# Altium footprint library Embedded.PcbLib: 8 footprints (part 2 of 3)
Each footprint in its own frame and in the unit in brackets; x right, y up, seen from the top. Pads: shape width x height; smd on the part's side, far side on the other; paste and mask are expansions set on the pad; w line width, h text height; cw(c..) or ccw(c..) is an arc to the next point about the centre after c.
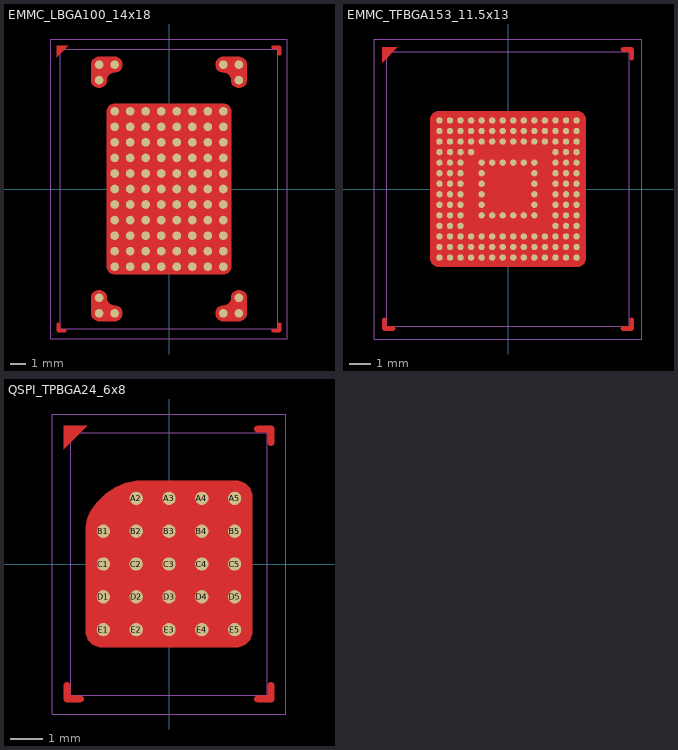
[diagram p1: the footprints below, top view; thin cyan lines are the x and y axes]

## EMMC_LBGA100_14x18 [mil]
pads (100):
  round 22 smd mask+2: A1(-177.17,314.96) A2(-137.8,314.96) A9(137.8,314.96) A10(177.17,314.96) B1(-177.17,275.59) B10(177.17,275.59) D2(-137.8,196.85) D3(-98.43,196.85) D4(-59.06,196.85) D5(-19.68,196.85) D6(19.69,196.85) D7(59.06,196.85) D8(98.43,196.85) D9(137.8,196.85) E2(-137.8,157.48) E3(-98.43,157.48) E4(-59.06,157.48) E5(-19.68,157.48) E6(19.69,157.48) E7(59.06,157.48) E8(98.43,157.48) E9(137.8,157.48) F2(-137.8,118.11) F3(-98.43,118.11) F4(-59.06,118.11) F5(-19.68,118.11) F6(19.69,118.11) F7(59.06,118.11) F8(98.43,118.11) F9(137.8,118.11) G2(-137.8,78.74) G3(-98.43,78.74) G4(-59.06,78.74) G5(-19.68,78.74) G6(19.69,78.74) G7(59.06,78.74) G8(98.43,78.74) G9(137.8,78.74) H2(-137.8,39.37) H3(-98.43,39.37) H4(-59.06,39.37) H5(-19.68,39.37) H6(19.69,39.37) H7(59.06,39.37) H8(98.43,39.37) H9(137.8,39.37) J2(-137.8,0) J3(-98.43,0) J4(-59.06,0) J5(-19.68,0) J6(19.69,0) J7(59.06,0) J8(98.43,0) J9(137.8,0) K2(-137.8,-39.37) K3(-98.43,-39.37) K4(-59.06,-39.37) K5(-19.68,-39.37) K6(19.69,-39.37) K7(59.06,-39.37) K8(98.43,-39.37) K9(137.8,-39.37) L2(-137.8,-78.74) L3(-98.43,-78.74) L4(-59.06,-78.74) L5(-19.68,-78.74) L6(19.69,-78.74) L7(59.06,-78.74) L8(98.43,-78.74) L9(137.8,-78.74) M2(-137.8,-118.11) M3(-98.43,-118.11) M4(-59.06,-118.11) M5(-19.68,-118.11) M6(19.69,-118.11) M7(59.06,-118.11) M8(98.43,-118.11) M9(137.8,-118.11) N2(-137.8,-157.48) N3(-98.43,-157.48) N4(-59.06,-157.48) N5(-19.68,-157.48) N6(19.69,-157.48) N7(59.06,-157.48) N8(98.43,-157.48) N9(137.8,-157.48) P2(-137.8,-196.85) P3(-98.43,-196.85) P4(-59.06,-196.85) P5(-19.68,-196.85) P6(19.69,-196.85) P7(59.06,-196.85) P8(98.43,-196.85) P9(137.8,-196.85) T1(-177.17,-275.59) T10(177.17,-275.59) U1(-177.17,-314.96) U2(-137.8,-314.96) U9(137.8,-314.96) U10(177.17,-314.96)
Top Layer:
  pour cut-out: -196.85,314.96 -196.85,318.88 -193.85,326.11 -188.32,331.65 -181.08,334.65 -177.17,334.65 -137.8,334.65 -133.88,334.65 -126.64,331.65 -121.11,326.11 -118.11,318.88 -118.11,314.96 -118.11,311.05 -121.11,303.81 -126.64,298.27 -133.88,295.28 -137.8,295.28 -141.64,294.9 -148.73,291.96 -154.16,286.53 -157.1,279.43 -157.48,275.59 -157.48,271.68 -160.48,264.44 -166.01,258.9 -173.25,255.91 -177.17,255.91 -181.08,255.91 -188.32,258.9 -193.85,264.44 -196.85,271.68 -196.85,275.59
  pour cut-out: 177.17,334.65 181.08,334.65 188.32,331.65 193.85,326.11 196.85,318.88 196.85,314.96 196.85,275.59 196.85,271.68 193.85,264.44 188.32,258.9 181.08,255.91 177.17,255.91 173.25,255.91 166.01,258.9 160.48,264.44 157.48,271.68 157.48,275.59 157.1,279.43 154.16,286.53 148.73,291.96 141.64,294.9 137.8,295.28 133.88,295.28 126.64,298.27 121.11,303.81 118.11,311.05 118.11,314.96 118.11,318.88 121.11,326.11 126.64,331.65 133.88,334.65 137.8,334.65
  pour cut-out: 196.85,-314.96 196.85,-318.88 193.85,-326.11 188.32,-331.65 181.08,-334.65 177.17,-334.65 137.8,-334.65 133.88,-334.65 126.64,-331.65 121.11,-326.11 118.11,-318.88 118.11,-314.96 118.11,-311.05 121.11,-303.81 126.64,-298.27 133.88,-295.28 137.8,-295.28 141.64,-294.9 148.73,-291.96 154.16,-286.53 157.1,-279.43 157.48,-275.59 157.48,-271.68 160.48,-264.44 166.01,-258.9 173.25,-255.91 177.17,-255.91 181.08,-255.91 188.32,-258.9 193.85,-264.44 196.85,-271.68 196.85,-275.59
  pour cut-out: -177.17,-334.65 -181.08,-334.65 -188.32,-331.65 -193.85,-326.11 -196.85,-318.88 -196.85,-314.96 -196.85,-275.59 -196.85,-271.68 -193.85,-264.44 -188.32,-258.9 -181.08,-255.91 -177.17,-255.91 -173.25,-255.91 -166.01,-258.9 -160.48,-264.44 -157.48,-271.68 -157.48,-275.59 -157.1,-279.43 -154.16,-286.53 -148.73,-291.96 -141.64,-294.9 -137.8,-295.28 -133.88,-295.28 -126.64,-298.27 -121.11,-303.81 -118.11,-311.05 -118.11,-314.96 -118.11,-318.88 -121.11,-326.11 -126.64,-331.65 -133.88,-334.65 -137.8,-334.65
  region: -284.06,362.8 -284.06,334.25 -255.51,362.8
  region: 276.06,342.8 276.06,342 276.66,340.53 277.79,339.4 279.26,338.8 280.06,338.8 280.85,338.8 282.32,339.4 283.45,340.53 284.06,342 284.06,342.8 284.06,358.8 284.06,359.59 283.45,361.06 282.32,362.19 280.85,362.8 280.06,362.8 264.06,362.8 263.26,362.8 261.79,362.19 260.66,361.06 260.06,359.59 260.06,358.8 260.06,358 260.66,356.53 261.79,355.4 263.26,354.8 264.06,354.8 274.06,354.8 274.45,354.76 275.17,354.46 275.72,353.91 276.02,353.19 276.06,352.8
  region: -276.05,-342.8 -276.05,-342 -276.66,-340.53 -277.79,-339.4 -279.26,-338.8 -280.05,-338.8 -280.85,-338.8 -282.32,-339.4 -283.45,-340.53 -284.05,-342 -284.05,-342.8 -284.05,-358.8 -284.05,-359.59 -283.45,-361.06 -282.32,-362.19 -280.85,-362.8 -280.05,-362.8 -264.05,-362.8 -263.26,-362.8 -261.79,-362.19 -260.66,-361.06 -260.05,-359.59 -260.05,-358.8 -260.05,-358 -260.66,-356.53 -261.79,-355.4 -263.26,-354.8 -264.05,-354.8 -274.05,-354.8 -274.44,-354.76 -275.17,-354.46 -275.72,-353.91 -276.02,-353.19 -276.05,-352.8
  region: 264.06,-354.8 263.26,-354.8 261.79,-355.4 260.66,-356.53 260.06,-358 260.06,-358.8 260.06,-359.59 260.66,-361.06 261.79,-362.19 263.26,-362.8 264.06,-362.8 280.06,-362.8 280.85,-362.8 282.32,-362.19 283.45,-361.06 284.06,-359.59 284.06,-358.8 284.06,-342.8 284.06,-342 283.45,-340.53 282.32,-339.4 280.85,-338.8 280.06,-338.8 279.26,-338.8 277.79,-339.4 276.66,-340.53 276.06,-342 276.06,-342.8 276.06,-352.8 276.02,-353.19 275.72,-353.91 275.17,-354.46 274.45,-354.76 274.06,-354.8
  pour cut-out: -137.8,216.54 -141.71,216.54 -148.95,213.54 -154.48,208 -157.48,200.77 -157.48,196.85 -157.48,-196.85 -157.48,-200.77 -154.48,-208 -148.95,-213.54 -141.71,-216.54 -137.8,-216.54 137.8,-216.54 141.71,-216.54 148.95,-213.54 154.48,-208 157.48,-200.77 157.48,-196.85 157.48,196.85 157.48,200.77 154.48,208 148.95,213.54 141.71,216.54 137.8,216.54
Top Designator:
  text ".Designator" at 12.5,-127.64 h35
Top Component Center:
  lines w1: -3,-3 0,0 ; -3,3 0,0 ; 3,-3 0,0 ; 3,3 0,0
Top Courtyard:
  lines w1: -300,-380 300,-380 300,380 -300,380 -300,-380
Top Component Outline:
  lines w1: -275.59,-354.33 275.59,-354.33 275.59,354.33 -275.59,354.33 -275.59,-354.33
3D body: height 17.43, standoff -3.43, extent -187.74,265.16 -166.89,286.03
3D body: height 17.43, standoff -3.43, extent -187.74,304.53 -166.89,325.4
3D body: height 17.43, standoff -3.43, extent -148.37,304.53 -127.52,325.4
3D body: height 17.43, standoff -3.43, extent 127.37,304.68 148.23,325.54
3D body: height 17.43, standoff -3.43, extent 166.74,304.68 187.6,325.54
3D body: height 17.43, standoff -3.43, extent 166.74,265.31 187.6,286.17
3D body: height 17.43, standoff -3.43, extent 166.89,-286.03 187.74,-265.16
3D body: height 17.43, standoff -3.43, extent 166.89,-325.4 187.74,-304.53
3D body: height 17.43, standoff -3.43, extent 127.52,-325.4 148.37,-304.53
3D body: height 17.43, standoff -3.43, extent -187.6,-286.17 -166.74,-265.31
3D body: height 17.43, standoff -3.43, extent -187.6,-325.54 -166.74,-304.68
3D body: height 17.43, standoff -3.43, extent -148.23,-325.54 -127.37,-304.68
3D body: height 17.43, standoff -3.43, extent -148.23,-207.43 -127.37,-186.57
3D body: height 17.43, standoff -3.43, extent -108.86,-207.43 -88,-186.57
3D body: height 17.43, standoff -3.43, extent -69.49,-207.43 -48.63,-186.57
3D body: height 17.43, standoff -3.43, extent -30.12,-207.43 -9.26,-186.57
3D body: height 17.43, standoff -3.43, extent 9.25,-207.43 30.11,-186.57
3D body: height 17.43, standoff -3.43, extent 48.62,-207.43 69.48,-186.57
3D body: height 17.43, standoff -3.43, extent 87.99,-207.43 108.85,-186.57
3D body: height 17.43, standoff -3.43, extent 127.36,-207.43 148.22,-186.57
3D body: height 17.43, standoff -3.43, extent -148.23,-168.06 -127.37,-147.2
3D body: height 17.43, standoff -3.43, extent -108.86,-168.06 -88,-147.2
3D body: height 17.43, standoff -3.43, extent -69.49,-168.06 -48.63,-147.2
3D body: height 17.43, standoff -3.43, extent -30.12,-168.06 -9.26,-147.2
3D body: height 17.43, standoff -3.43, extent 9.25,-168.06 30.11,-147.2
3D body: height 17.43, standoff -3.43, extent 48.62,-168.06 69.48,-147.2
3D body: height 17.43, standoff -3.43, extent 87.99,-168.06 108.85,-147.2
3D body: height 17.43, standoff -3.43, extent 127.36,-168.06 148.22,-147.2
3D body: height 17.43, standoff -3.43, extent -148.23,-128.69 -127.37,-107.83
3D body: height 17.43, standoff -3.43, extent -108.86,-128.69 -88,-107.83
3D body: height 17.43, standoff -3.43, extent -69.49,-128.69 -48.63,-107.83
3D body: height 17.43, standoff -3.43, extent -30.12,-128.69 -9.26,-107.83
3D body: height 17.43, standoff -3.43, extent 9.25,-128.69 30.11,-107.83
3D body: height 17.43, standoff -3.43, extent 48.62,-128.69 69.48,-107.83
3D body: height 17.43, standoff -3.43, extent 87.99,-128.69 108.85,-107.83
3D body: height 17.43, standoff -3.43, extent 127.36,-128.69 148.22,-107.83
3D body: height 17.43, standoff -3.43, extent -148.23,-89.32 -127.37,-68.46
3D body: height 17.43, standoff -3.43, extent -108.86,-89.32 -88,-68.46
3D body: height 17.43, standoff -3.43, extent -69.49,-89.32 -48.63,-68.46
3D body: height 17.43, standoff -3.43, extent -30.12,-89.32 -9.26,-68.46
3D body: height 17.43, standoff -3.43, extent 9.25,-89.32 30.11,-68.46
3D body: height 17.43, standoff -3.43, extent 48.62,-89.32 69.48,-68.46
3D body: height 17.43, standoff -3.43, extent 87.99,-89.32 108.85,-68.46
3D body: height 17.43, standoff -3.43, extent 127.36,-89.32 148.22,-68.46
3D body: height 17.43, standoff -3.43, extent -148.23,-49.95 -127.37,-29.09
3D body: height 17.43, standoff -3.43, extent -108.86,-49.95 -88,-29.09
3D body: height 17.43, standoff -3.43, extent -69.49,-49.95 -48.63,-29.09
3D body: height 17.43, standoff -3.43, extent -30.12,-49.95 -9.26,-29.09
3D body: height 17.43, standoff -3.43, extent 9.25,-49.95 30.11,-29.09
3D body: height 17.43, standoff -3.43, extent 48.62,-49.95 69.48,-29.09
3D body: height 17.43, standoff -3.43, extent 87.99,-49.95 108.85,-29.09
3D body: height 17.43, standoff -3.43, extent 127.36,-49.95 148.22,-29.09
3D body: height 17.43, standoff -3.43, extent -148.23,-10.58 -127.37,10.28
3D body: height 17.43, standoff -3.43, extent -108.86,-10.58 -88,10.28
3D body: height 17.43, standoff -3.43, extent -69.49,-10.58 -48.63,10.28
3D body: height 17.43, standoff -3.43, extent -30.12,-10.58 -9.26,10.28
3D body: height 17.43, standoff -3.43, extent 9.25,-10.58 30.11,10.28
3D body: height 17.43, standoff -3.43, extent 48.62,-10.58 69.48,10.28
3D body: height 17.43, standoff -3.43, extent 87.99,-10.58 108.85,10.28
3D body: height 17.43, standoff -3.43, extent 127.36,-10.58 148.22,10.28
3D body: height 17.43, standoff -3.43, extent -148.23,28.79 -127.37,49.65
3D body: height 17.43, standoff -3.43, extent -108.86,28.79 -88,49.65
3D body: height 17.43, standoff -3.43, extent -69.49,28.79 -48.63,49.65
3D body: height 17.43, standoff -3.43, extent -30.12,28.79 -9.26,49.65
3D body: height 17.43, standoff -3.43, extent 9.25,28.79 30.11,49.65
3D body: height 17.43, standoff -3.43, extent 48.62,28.79 69.48,49.65
3D body: height 17.43, standoff -3.43, extent 87.99,28.79 108.85,49.65
3D body: height 17.43, standoff -3.43, extent 127.36,28.79 148.22,49.65
3D body: height 17.43, standoff -3.43, extent -148.23,68.16 -127.37,89.02
3D body: height 17.43, standoff -3.43, extent -108.86,68.16 -88,89.02
3D body: height 17.43, standoff -3.43, extent -69.49,68.16 -48.63,89.02
3D body: height 17.43, standoff -3.43, extent -30.12,68.16 -9.26,89.02
3D body: height 17.43, standoff -3.43, extent 9.25,68.16 30.11,89.02
3D body: height 17.43, standoff -3.43, extent 48.62,68.16 69.48,89.02
3D body: height 17.43, standoff -3.43, extent 87.99,68.16 108.85,89.02
3D body: height 17.43, standoff -3.43, extent 127.36,68.16 148.22,89.02
3D body: height 17.43, standoff -3.43, extent -148.23,107.53 -127.37,128.39
3D body: height 17.43, standoff -3.43, extent -108.86,107.53 -88,128.39
3D body: height 17.43, standoff -3.43, extent -69.49,107.53 -48.63,128.39
3D body: height 17.43, standoff -3.43, extent -30.12,107.53 -9.26,128.39
3D body: height 17.43, standoff -3.43, extent 9.25,107.53 30.11,128.39
3D body: height 17.43, standoff -3.43, extent 48.62,107.53 69.48,128.39
3D body: height 17.43, standoff -3.43, extent 87.99,107.53 108.85,128.39
3D body: height 17.43, standoff -3.43, extent 127.36,107.53 148.22,128.39
3D body: height 17.43, standoff -3.43, extent -148.23,146.9 -127.37,167.76
3D body: height 17.43, standoff -3.43, extent -108.86,146.9 -88,167.76
3D body: height 17.43, standoff -3.43, extent -69.49,146.9 -48.63,167.76
3D body: height 17.43, standoff -3.43, extent -30.12,146.9 -9.26,167.76
3D body: height 17.43, standoff -3.43, extent 9.25,146.9 30.11,167.76
3D body: height 17.43, standoff -3.43, extent 48.62,146.9 69.48,167.76
3D body: height 17.43, standoff -3.43, extent 87.99,146.9 108.85,167.76
3D body: height 17.43, standoff -3.43, extent 127.36,146.9 148.22,167.76
3D body: height 17.43, standoff -3.43, extent 127.36,186.27 148.22,207.13
3D body: height 17.43, standoff -3.43, extent 87.99,186.27 108.85,207.13
3D body: height 17.43, standoff -3.43, extent 48.62,186.27 69.48,207.13
3D body: height 17.43, standoff -3.43, extent 9.25,186.27 30.11,207.13
3D body: height 17.43, standoff -3.43, extent -30.12,186.27 -9.26,207.13
3D body: height 17.43, standoff -3.43, extent -69.49,186.27 -48.63,207.13
3D body: height 17.43, standoff -3.43, extent -108.86,186.27 -88,207.13
3D body: height 17.43, standoff -3.43, extent -148.23,186.27 -127.37,207.13
3D body: height 51.18, standoff 12.2, extent -275.59,-354.33 275.59,354.33

## EMMC_TFBGA153_11.5x13 [mil]
pads (153):
  round 12 smd mask+1.5: A1(-127.95,127.95) A2(-108.27,127.95) A3(-88.58,127.95) A4(-68.9,127.95) A5(-49.21,127.95) A6(-29.53,127.95) A7(-9.84,127.95) A8(9.84,127.95) A9(29.53,127.95) A10(49.21,127.95) A11(68.9,127.95) A12(88.58,127.95) A13(108.27,127.95) A14(127.95,127.95) B1(-127.95,108.27) B2(-108.27,108.27) B3(-88.58,108.27) B4(-68.9,108.27) B5(-49.21,108.27) B6(-29.53,108.27) B7(-9.84,108.27) B8(9.84,108.27) B9(29.53,108.27) B10(49.21,108.27) B11(68.9,108.27) B12(88.58,108.27) B13(108.27,108.27) B14(127.95,108.27) C1(-127.95,88.58) C2(-108.27,88.58) C3(-88.58,88.58) C4(-68.9,88.58) C5(-49.21,88.58) C6(-29.53,88.58) C7(-9.84,88.58) C8(9.84,88.58) C9(29.53,88.58) C10(49.21,88.58) C11(68.9,88.58) C12(88.58,88.58) C13(108.27,88.58) C14(127.95,88.58) D1(-127.95,68.9) D2(-108.27,68.9) D3(-88.58,68.9) D4(-68.9,68.9) D12(88.58,68.9) D13(108.27,68.9) D14(127.95,68.9) E1(-127.95,49.21) E2(-108.27,49.21) E3(-88.58,49.21) E5(-49.21,49.21) E6(-29.53,49.21) E7(-9.84,49.21) E8(9.84,49.21) E9(29.53,49.21) E10(49.21,49.21) E12(88.58,49.21) E13(108.27,49.21) E14(127.95,49.21) F1(-127.95,29.53) F2(-108.27,29.53) F3(-88.58,29.53) F5(-49.21,29.53) F10(49.21,29.53) F12(88.58,29.53) F13(108.27,29.53) F14(127.95,29.53) G1(-127.95,9.84) G2(-108.27,9.84) G3(-88.58,9.84) G5(-49.21,9.84) G10(49.21,9.84) G12(88.58,9.84) G13(108.27,9.84) G14(127.95,9.84) H1(-127.95,-9.84) H2(-108.27,-9.84) H3(-88.58,-9.84) H5(-49.21,-9.84) H10(49.21,-9.84) H12(88.58,-9.84) H13(108.27,-9.84) H14(127.95,-9.84) J1(-127.95,-29.53) J2(-108.27,-29.53) J3(-88.58,-29.53) J5(-49.21,-29.53) J10(49.21,-29.53) J12(88.58,-29.53) J13(108.27,-29.53) J14(127.95,-29.53) K1(-127.95,-49.21) K2(-108.27,-49.21) K3(-88.58,-49.21) K5(-49.21,-49.21) K6(-29.53,-49.21) K7(-9.84,-49.21) K8(9.84,-49.21) K9(29.53,-49.21) K10(49.21,-49.21) K12(88.58,-49.21) K13(108.27,-49.21) K14(127.95,-49.21) L1(-127.95,-68.9) L2(-108.27,-68.9) L3(-88.58,-68.9) L12(88.58,-68.9) L13(108.27,-68.9) L14(127.95,-68.9) M1(-127.95,-88.58) M2(-108.27,-88.58) M3(-88.58,-88.58) M4(-68.9,-88.58) M5(-49.21,-88.58) M6(-29.53,-88.58) M7(-9.84,-88.58) M8(9.84,-88.58) M9(29.53,-88.58) M10(49.21,-88.58) M11(68.9,-88.58) M12(88.58,-88.58) M13(108.27,-88.58) M14(127.95,-88.58) N1(-127.95,-108.27) N2(-108.27,-108.27) N3(-88.58,-108.27) N4(-68.9,-108.27) N5(-49.21,-108.27) N6(-29.53,-108.27) N7(-9.84,-108.27) N8(9.84,-108.27) N9(29.53,-108.27) N10(49.21,-108.27) N11(68.9,-108.27) N12(88.58,-108.27) N13(108.27,-108.27) N14(127.95,-108.27) P1(-127.95,-127.95) P2(-108.27,-127.95) P3(-88.58,-127.95) P4(-68.9,-127.95) P5(-49.21,-127.95) P6(-29.53,-127.95) P7(-9.84,-127.95) P8(9.84,-127.95) P9(29.53,-127.95) P10(49.21,-127.95) P11(68.9,-127.95) P12(88.58,-127.95) P13(108.27,-127.95) P14(127.95,-127.95)
Top Layer:
  region: 214.84,-256.37 214.05,-256.37 212.58,-256.98 211.45,-258.1 210.84,-259.57 210.84,-260.37 210.84,-261.17 211.45,-262.64 212.58,-263.76 214.05,-264.37 214.84,-264.37 230.84,-264.37 231.64,-264.37 233.11,-263.76 234.23,-262.64 234.84,-261.17 234.84,-260.37 234.84,-244.37 234.84,-243.57 234.23,-242.1 233.11,-240.98 231.64,-240.37 230.84,-240.37 230.05,-240.37 228.58,-240.98 227.45,-242.1 226.84,-243.57 226.84,-244.37 226.84,-254.37 226.8,-254.76 226.51,-255.48 225.95,-256.03 225.23,-256.33 224.84,-256.37
  region: -226.84,-244.37 -226.84,-243.57 -227.45,-242.1 -228.58,-240.98 -230.05,-240.37 -230.84,-240.37 -231.64,-240.37 -233.11,-240.98 -234.23,-242.1 -234.84,-243.57 -234.84,-244.37 -234.84,-260.37 -234.84,-261.17 -234.23,-262.64 -233.11,-263.76 -231.64,-264.37 -230.84,-264.37 -214.84,-264.37 -214.05,-264.37 -212.58,-263.76 -211.45,-262.64 -210.84,-261.17 -210.84,-260.37 -210.84,-259.57 -211.45,-258.1 -212.58,-256.98 -214.05,-256.37 -214.84,-256.37 -224.84,-256.37 -225.23,-256.33 -225.95,-256.03 -226.51,-255.48 -226.8,-254.76 -226.84,-254.37
  region: 226.84,244.37 226.84,243.57 227.45,242.1 228.58,240.98 230.05,240.37 230.84,240.37 231.64,240.37 233.11,240.98 234.23,242.1 234.84,243.57 234.84,244.37 234.84,260.37 234.84,261.17 234.23,262.64 233.11,263.76 231.64,264.37 230.84,264.37 214.84,264.37 214.05,264.37 212.58,263.76 211.45,262.64 210.84,261.17 210.84,260.37 210.84,259.57 211.45,258.1 212.58,256.98 214.05,256.37 214.84,256.37 224.84,256.37 225.23,256.33 225.95,256.03 226.51,255.48 226.8,254.76 226.84,254.37
  region: -234.84,264.37 -234.84,235.83 -206.3,264.37
  pour cut-out: -130,145 -132.98,145 -138.5,142.72 -142.72,138.5 -145,132.98 -145,130 -145,-130 -145,-132.98 -142.72,-138.5 -138.5,-142.72 -132.98,-145 -130,-145 130,-145 132.98,-145 138.5,-142.72 142.72,-138.5 145,-132.98 145,-130 145,130 145,132.98 142.72,138.5 138.5,142.72 132.98,145 130,145
Top Designator:
  text ".Designator" at -127.64,-12.5 h35
Top Component Center:
  lines w1: -3,-3 0,0 ; -3,3 0,0 ; 3,-3 0,0 ; 3,3 0,0
Top Courtyard:
  lines w1: -250,-280 -250,280 250,280 250,-280 -250,-280
Top Component Outline:
  lines w1: -226.38,-255.91 -226.38,255.91 226.38,255.91 226.38,-255.91 -226.38,-255.91
3D body: height 11, standoff -1, extent 43.3,-15.67 55.12,-4.03
3D body: height 11, standoff -1, extent 43.3,-35.36 55.12,-23.72
3D body: height 11, standoff -1, extent 43.3,-55.04 55.12,-43.4
3D body: height 11, standoff -1, extent 43.3,4.01 55.12,15.65
3D body: height 11, standoff -1, extent 43.3,23.7 55.12,35.34
3D body: height 11, standoff -1, extent 43.3,43.38 55.12,55.02
3D body: height 11, standoff -1, extent 122.04,122.12 133.86,133.76
3D body: height 11, standoff -1, extent 122.04,102.44 133.86,114.08
3D body: height 11, standoff -1, extent 122.04,82.75 133.86,94.39
3D body: height 11, standoff -1, extent 122.04,23.7 133.86,35.34
3D body: height 11, standoff -1, extent 122.04,43.38 133.86,55.02
3D body: height 11, standoff -1, extent 122.04,63.07 133.86,74.71
3D body: height 11, standoff -1, extent 122.04,4.01 133.86,15.65
3D body: height 11, standoff -1, extent 122.04,-15.67 133.86,-4.03
3D body: height 11, standoff -1, extent 122.04,-35.36 133.86,-23.72
3D body: height 11, standoff -1, extent 122.04,-94.41 133.86,-82.77
3D body: height 11, standoff -1, extent 122.04,-74.73 133.86,-63.09
3D body: height 11, standoff -1, extent 122.04,-55.04 133.86,-43.4
3D body: height 11, standoff -1, extent 122.04,-114.1 133.86,-102.46
3D body: height 11, standoff -1, extent 122.04,-133.78 133.86,-122.14
3D body: height 11, standoff -1, extent 102.36,-133.78 114.17,-122.14
3D body: height 11, standoff -1, extent 102.36,-114.1 114.17,-102.46
3D body: height 11, standoff -1, extent 102.36,-55.04 114.17,-43.4
3D body: height 11, standoff -1, extent 102.36,-74.73 114.17,-63.09
3D body: height 11, standoff -1, extent 102.36,-94.41 114.17,-82.77
3D body: height 11, standoff -1, extent 102.36,-35.36 114.17,-23.72
3D body: height 11, standoff -1, extent 102.36,-15.67 114.17,-4.03
3D body: height 11, standoff -1, extent 102.36,4.01 114.17,15.65
3D body: height 11, standoff -1, extent 102.36,63.07 114.17,74.71
3D body: height 11, standoff -1, extent 102.36,43.38 114.17,55.02
3D body: height 11, standoff -1, extent 102.36,23.7 114.17,35.34
3D body: height 11, standoff -1, extent 102.36,82.75 114.17,94.39
3D body: height 11, standoff -1, extent 102.36,102.44 114.17,114.08
3D body: height 11, standoff -1, extent 102.36,122.12 114.17,133.76
3D body: height 11, standoff -1, extent 82.67,-133.78 94.49,-122.14
3D body: height 11, standoff -1, extent 82.67,-114.1 94.49,-102.46
3D body: height 11, standoff -1, extent 82.67,-55.04 94.49,-43.4
3D body: height 11, standoff -1, extent 82.67,-74.73 94.49,-63.09
3D body: height 11, standoff -1, extent 82.67,-94.41 94.49,-82.77
3D body: height 11, standoff -1, extent 82.67,-35.36 94.49,-23.72
3D body: height 11, standoff -1, extent 82.67,-15.67 94.49,-4.03
3D body: height 11, standoff -1, extent 82.67,4.01 94.49,15.65
3D body: height 11, standoff -1, extent 82.67,63.07 94.49,74.71
3D body: height 11, standoff -1, extent 82.67,43.38 94.49,55.02
3D body: height 11, standoff -1, extent 82.67,23.7 94.49,35.34
3D body: height 11, standoff -1, extent 82.67,82.75 94.49,94.39
3D body: height 11, standoff -1, extent 82.67,102.44 94.49,114.08
3D body: height 11, standoff -1, extent 82.67,122.12 94.49,133.76
3D body: height 11, standoff -1, extent 62.99,-133.78 74.8,-122.14
3D body: height 11, standoff -1, extent 62.99,-114.1 74.8,-102.46
3D body: height 11, standoff -1, extent 62.99,-94.41 74.8,-82.77
3D body: height 11, standoff -1, extent 62.99,82.75 74.8,94.39
3D body: height 11, standoff -1, extent 62.99,102.44 74.8,114.08
3D body: height 11, standoff -1, extent 62.99,122.12 74.8,133.76
3D body: height 11, standoff -1, extent 23.62,-133.78 35.43,-122.14
3D body: height 11, standoff -1, extent 23.62,-114.1 35.43,-102.46
3D body: height 11, standoff -1, extent 23.62,-55.04 35.43,-43.4
3D body: height 11, standoff -1, extent 23.62,-94.41 35.43,-82.77
3D body: height 11, standoff -1, extent 23.62,43.38 35.43,55.02
3D body: height 11, standoff -1, extent 23.62,82.75 35.43,94.39
3D body: height 11, standoff -1, extent 23.62,102.44 35.43,114.08
3D body: height 11, standoff -1, extent 23.62,122.12 35.43,133.76
3D body: height 11, standoff -1, extent 3.93,-133.78 15.75,-122.14
3D body: height 11, standoff -1, extent 3.93,-114.1 15.75,-102.46
3D body: height 11, standoff -1, extent 3.93,-55.04 15.75,-43.4
3D body: height 11, standoff -1, extent 3.93,-94.41 15.75,-82.77
3D body: height 11, standoff -1, extent 3.93,43.38 15.75,55.02
3D body: height 11, standoff -1, extent 3.93,82.75 15.75,94.39
3D body: height 11, standoff -1, extent 3.93,102.44 15.75,114.08
3D body: height 11, standoff -1, extent 3.93,122.12 15.75,133.76
3D body: height 11, standoff -1, extent -15.75,-133.78 -3.94,-122.14
3D body: height 11, standoff -1, extent -15.75,-114.1 -3.94,-102.46
3D body: height 11, standoff -1, extent -15.75,-55.04 -3.94,-43.4
3D body: height 11, standoff -1, extent -15.75,-94.41 -3.94,-82.77
3D body: height 11, standoff -1, extent -15.75,43.38 -3.94,55.02
3D body: height 11, standoff -1, extent -15.75,82.75 -3.94,94.39
3D body: height 11, standoff -1, extent -15.75,102.44 -3.94,114.08
3D body: height 11, standoff -1, extent -15.75,122.12 -3.94,133.76
3D body: height 11, standoff -1, extent -35.44,-133.78 -23.62,-122.14
3D body: height 11, standoff -1, extent -35.44,-114.1 -23.62,-102.46
3D body: height 11, standoff -1, extent -35.44,-55.04 -23.62,-43.4
3D body: height 11, standoff -1, extent -35.44,-94.41 -23.62,-82.77
3D body: height 11, standoff -1, extent -35.44,43.38 -23.62,55.02
3D body: height 11, standoff -1, extent -35.44,82.75 -23.62,94.39
3D body: height 11, standoff -1, extent -35.44,102.44 -23.62,114.08
3D body: height 11, standoff -1, extent -35.44,122.12 -23.62,133.76
3D body: height 11, standoff -1, extent -55.12,-133.78 -43.31,-122.14
3D body: height 11, standoff -1, extent -55.12,-114.1 -43.31,-102.46
3D body: height 11, standoff -1, extent -55.12,-55.04 -43.31,-43.4
3D body: height 11, standoff -1, extent -55.12,-94.41 -43.31,-82.77
3D body: height 11, standoff -1, extent -55.12,-35.36 -43.31,-23.72
3D body: height 11, standoff -1, extent -55.12,-15.67 -43.31,-4.03
3D body: height 11, standoff -1, extent -55.12,4.01 -43.31,15.65
3D body: height 11, standoff -1, extent -55.12,43.38 -43.31,55.02
3D body: height 11, standoff -1, extent -55.12,23.7 -43.31,35.34
3D body: height 11, standoff -1, extent -55.12,82.75 -43.31,94.39
3D body: height 11, standoff -1, extent -55.12,102.44 -43.31,114.08
3D body: height 11, standoff -1, extent -55.12,122.12 -43.31,133.76
3D body: height 11, standoff -1, extent -74.81,-133.78 -62.99,-122.14
3D body: height 11, standoff -1, extent -74.81,-114.1 -62.99,-102.46
3D body: height 11, standoff -1, extent -74.81,-94.41 -62.99,-82.77
3D body: height 11, standoff -1, extent -74.81,63.07 -62.99,74.71
3D body: height 11, standoff -1, extent -74.81,82.75 -62.99,94.39
3D body: height 11, standoff -1, extent -74.81,102.44 -62.99,114.08
3D body: height 11, standoff -1, extent -74.81,122.12 -62.99,133.76
3D body: height 11, standoff -1, extent -94.49,-133.78 -82.68,-122.14
3D body: height 11, standoff -1, extent -94.49,-114.1 -82.68,-102.46
3D body: height 11, standoff -1, extent -94.49,-55.04 -82.68,-43.4
3D body: height 11, standoff -1, extent -94.49,-74.73 -82.68,-63.09
3D body: height 11, standoff -1, extent -94.49,-94.41 -82.68,-82.77
3D body: height 11, standoff -1, extent -94.49,-35.36 -82.68,-23.72
3D body: height 11, standoff -1, extent -94.49,-15.67 -82.68,-4.03
3D body: height 11, standoff -1, extent -94.49,4.01 -82.68,15.65
3D body: height 11, standoff -1, extent -94.49,63.07 -82.68,74.71
3D body: height 11, standoff -1, extent -94.49,43.38 -82.68,55.02
3D body: height 11, standoff -1, extent -94.49,23.7 -82.68,35.34
3D body: height 11, standoff -1, extent -94.49,82.75 -82.68,94.39
3D body: height 11, standoff -1, extent -94.49,102.44 -82.68,114.08
3D body: height 11, standoff -1, extent -94.49,122.12 -82.68,133.76
3D body: height 11, standoff -1, extent -114.18,-133.78 -102.36,-122.14
3D body: height 11, standoff -1, extent -114.18,-114.1 -102.36,-102.46
3D body: height 11, standoff -1, extent -114.18,-55.04 -102.36,-43.4
3D body: height 11, standoff -1, extent -114.18,-74.73 -102.36,-63.09
3D body: height 11, standoff -1, extent -114.18,-94.41 -102.36,-82.77
3D body: height 11, standoff -1, extent -114.18,-35.36 -102.36,-23.72
3D body: height 11, standoff -1, extent -114.18,-15.67 -102.36,-4.03
3D body: height 11, standoff -1, extent -114.18,4.01 -102.36,15.65
3D body: height 11, standoff -1, extent -114.18,63.07 -102.36,74.71
3D body: height 11, standoff -1, extent -114.18,43.38 -102.36,55.02
3D body: height 11, standoff -1, extent -114.18,23.7 -102.36,35.34
3D body: height 11, standoff -1, extent -114.18,82.75 -102.36,94.39
3D body: height 11, standoff -1, extent -114.18,102.44 -102.36,114.08
3D body: height 11, standoff -1, extent -114.18,122.12 -102.36,133.76
3D body: height 11, standoff -1, extent -133.86,-133.78 -122.05,-122.14
3D body: height 11, standoff -1, extent -133.86,-114.1 -122.05,-102.46
3D body: height 11, standoff -1, extent -133.86,-55.04 -122.05,-43.4
3D body: height 11, standoff -1, extent -133.86,-74.73 -122.05,-63.09
3D body: height 11, standoff -1, extent -133.86,-94.41 -122.05,-82.77
3D body: height 11, standoff -1, extent -133.86,-35.36 -122.05,-23.72
3D body: height 11, standoff -1, extent -133.86,-15.67 -122.05,-4.03
3D body: height 11, standoff -1, extent -133.86,4.01 -122.05,15.65
3D body: height 11, standoff -1, extent -133.86,63.07 -122.05,74.71
3D body: height 11, standoff -1, extent -133.86,43.38 -122.05,55.02
3D body: height 11, standoff -1, extent -133.86,23.7 -122.05,35.34
3D body: height 11, standoff -1, extent -133.86,82.75 -122.05,94.39
3D body: height 11, standoff -1, extent -133.86,102.44 -122.05,114.08
3D body: height 11, standoff -1, extent -133.86,122.12 -122.05,133.76
3D body: height 11, standoff -1, extent 43.3,82.75 55.12,94.39
3D body: height 11, standoff -1, extent 43.3,102.44 55.12,114.08
3D body: height 11, standoff -1, extent 43.3,122.12 55.12,133.76
3D body: height 11, standoff -1, extent 43.31,-94.39 55.12,-82.75
3D body: height 11, standoff -1, extent 43.31,-114.08 55.12,-102.44
3D body: height 11, standoff -1, extent 43.31,-133.76 55.12,-122.12
3D body: height 51.18, standoff 7.87, extent -226.38,-255.91 226.38,255.91

## QSPI_TPBGA24_6x8 [mil]
pads (24):
  round 16 smd mask+2: A2(-39.37,78.74) A3(0,78.74) A4(39.37,78.74) A5(78.74,78.74) B1(-78.74,39.37) B2(-39.37,39.37) B3(0,39.37) B4(39.37,39.37) B5(78.74,39.37) C1(-78.74,0) C2(-39.37,0) C3(0,0) C4(39.37,0) C5(78.74,0) D1(-78.74,-39.37) D2(-39.37,-39.37) D3(0,-39.37) D4(39.37,-39.37) D5(78.74,-39.37) E1(-78.74,-78.74) E2(-39.37,-78.74) E3(0,-78.74) E4(39.37,-78.74) E5(78.74,-78.74)
Top Layer:
  region: -118.57,-145.94 -118.57,-145.15 -119.18,-143.68 -120.31,-142.55 -121.78,-141.94 -122.57,-141.94 -123.37,-141.94 -124.84,-142.55 -125.97,-143.68 -126.57,-145.15 -126.57,-145.94 -126.57,-161.94 -126.57,-162.74 -125.97,-164.21 -124.84,-165.34 -123.37,-165.94 -122.57,-165.94 -106.57,-165.94 -105.78,-165.94 -104.31,-165.34 -103.18,-164.21 -102.57,-162.74 -102.57,-161.94 -102.57,-161.15 -103.18,-159.68 -104.31,-158.55 -105.78,-157.94 -106.57,-157.94 -116.57,-157.94 -116.96,-157.91 -117.69,-157.61 -118.24,-157.06 -118.54,-156.33 -118.57,-155.94
  region: 106.58,-157.94 105.78,-157.94 104.31,-158.55 103.18,-159.68 102.58,-161.15 102.58,-161.94 102.58,-162.74 103.18,-164.21 104.31,-165.34 105.78,-165.94 106.58,-165.94 122.58,-165.94 123.37,-165.94 124.84,-165.34 125.97,-164.21 126.58,-162.74 126.58,-161.94 126.58,-145.94 126.58,-145.15 125.97,-143.68 124.84,-142.55 123.37,-141.94 122.58,-141.94 121.78,-141.94 120.31,-142.55 119.18,-143.68 118.58,-145.15 118.58,-145.94 118.58,-155.94 118.54,-156.33 118.24,-157.06 117.69,-157.61 116.97,-157.91 116.58,-157.94
  region: 118.57,145.94 118.57,145.15 119.18,143.68 120.31,142.55 121.78,141.94 122.57,141.94 123.37,141.94 124.84,142.55 125.97,143.68 126.57,145.15 126.57,145.94 126.57,161.94 126.57,162.74 125.97,164.21 124.84,165.34 123.37,165.94 122.57,165.94 106.57,165.94 105.78,165.94 104.31,165.34 103.18,164.21 102.57,162.74 102.57,161.94 102.57,161.15 103.18,159.68 104.31,158.55 105.78,157.94 106.57,157.94 116.57,157.94 116.96,157.91 117.69,157.61 118.24,157.06 118.54,156.34 118.57,155.94
  pour cut-out: 80,100 83.98,100 91.33,96.96 96.96,91.33 100,83.98 100,80 100,-80 100,-83.98 96.96,-91.33 91.33,-96.96 83.98,-100 80,-100 -80,-100 -83.98,-100 -91.33,-96.96 -96.96,-91.33 -100,-83.98 -100,-80 -100,40 -100,44.76 -98.14,54.08 -94.5,62.87 -89.22,70.78 -85.86,74.14 -80,80 -75.24,84.76 -64.06,92.23 -51.63,97.38 -38.44,100 -31.72,100
  region: -126.57,165.94 -126.57,137.4 -98.03,165.95
Top Designator:
  text ".Designator" at 12.5,-127.64 h35
Top Component Center:
  lines w1: -3,-3 0,0 ; -3,3 0,0 ; 3,-3 0,0 ; 3,3 0,0
Top Courtyard:
  lines w1: -140,-180 -140,180 140,180 140,-180 -140,-180
Top Component Outline:
  lines w1: -118.11,-157.48 -118.11,157.48 118.11,157.48 118.11,-157.48 -118.11,-157.48
3D body: height 13.78, standoff -1.97, extent -86.5,-86.74 -70.99,-71.02
3D body: height 13.78, standoff -1.97, extent -86.5,-47.37 -70.99,-31.65
3D body: height 13.78, standoff -1.97, extent -86.5,-8 -70.99,7.72
3D body: height 13.78, standoff -1.97, extent -86.5,31.37 -70.99,47.09
3D body: height 13.78, standoff -1.97, extent -47.13,-86.74 -31.62,-71.02
3D body: height 13.78, standoff -1.97, extent -47.13,-47.37 -31.62,-31.65
3D body: height 13.78, standoff -1.97, extent -47.13,-8 -31.62,7.72
3D body: height 13.78, standoff -1.97, extent -47.13,31.37 -31.62,47.09
3D body: height 13.78, standoff -1.97, extent -47.13,70.74 -31.62,86.46
3D body: height 13.78, standoff -1.97, extent -7.76,-86.74 7.75,-71.02
3D body: height 13.78, standoff -1.97, extent -7.76,-47.37 7.75,-31.65
3D body: height 13.78, standoff -1.97, extent -7.76,-8 7.75,7.72
3D body: height 13.78, standoff -1.97, extent -7.76,31.37 7.75,47.09
3D body: height 13.78, standoff -1.97, extent -7.76,70.74 7.75,86.46
3D body: height 13.78, standoff -1.97, extent 31.61,-86.74 47.12,-71.02
3D body: height 13.78, standoff -1.97, extent 31.61,-47.37 47.12,-31.65
3D body: height 13.78, standoff -1.97, extent 31.61,-8 47.12,7.72
3D body: height 13.78, standoff -1.97, extent 31.61,31.37 47.12,47.09
3D body: height 13.78, standoff -1.97, extent 31.61,70.74 47.12,86.46
3D body: height 13.78, standoff -1.97, extent 70.98,70.74 86.49,86.46
3D body: height 13.78, standoff -1.97, extent 70.98,31.37 86.49,47.09
3D body: height 13.78, standoff -1.97, extent 70.98,-8 86.49,7.72
3D body: height 13.78, standoff -1.97, extent 70.98,-47.37 86.49,-31.65
3D body: height 13.78, standoff -1.97, extent 70.98,-86.74 86.49,-71.02
3D body: height 43.31, standoff 11.81, extent -118.11,-157.48 118.11,157.48